# EAGLE library part CD4017 (library SparkFun-IC-Logic)
10-Out Decade Counter Datasheet <https://cdn.sparkfun.com/datasheets/Kits/cd4022b.pdf> SparkFun Products SparkFun SparkPunk Sequencer Kit <https://www.sparkfun.com/products/12707> (KIT-12707)
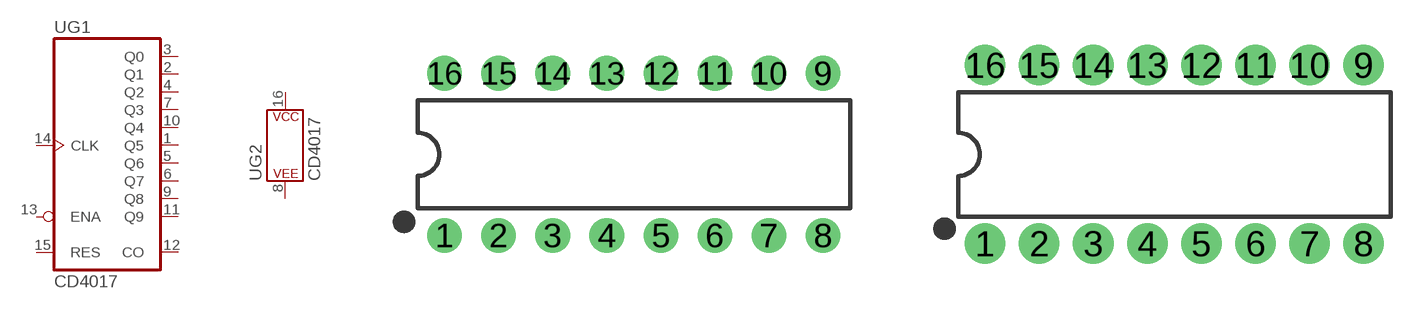
[diagram p5: symbol with the pads of DIP16; footprints DIP16, DIP16-KIT]

Designator prefix U; gates G1=CD4017 G2=POWER_CONSORT

## CD4017 (PROD_ID: IC-11929; VALUE: CD4017)  [DIP16]
1  G1:Q5  out
2  G1:Q1  out
3  G1:Q0  out
4  G1:Q2  out
5  G1:Q6  out
6  G1:Q7  out
7  G1:Q3  out
8  G2:P$V-
9  G1:Q8  out
10  G1:Q4  out
11  G1:Q9  out
12  G1:CO  out
13  G1:ENA  in
14  G1:CLK  in
15  G1:RES  in
16  G2:P$V+

## CD4017KIT (PROD_ID: IC-11929)  [DIP16-KIT]
Pads as for DIP16

## Footprint DIP16 (pad centres in mm)
Dual In Line Package
drill 0.813 pad 1.626: 1 -8.89,-3.81; 2 -6.35,-3.81; 3 -3.81,-3.81; 4 -1.27,-3.81; 5 1.27,-3.81; 6 3.81,-3.81; 7 6.35,-3.81; 8 8.89,-3.81; 9 8.89,3.81; 10 6.35,3.81; 11 3.81,3.81; 12 1.27,3.81; 13 -1.27,3.81; 14 -3.81,3.81; 15 -6.35,3.81; 16 -8.89,3.81

## Footprint DIP16-KIT (pad centres in mm)
drill 0.864 pad 1.905: 1 -8.89,-4.191; 2 -6.35,-4.191; 3 -3.81,-4.191; 4 -1.27,-4.191; 5 1.27,-4.191; 6 3.81,-4.191; 7 6.35,-4.191; 8 8.89,-4.191; 9 8.89,4.191; 10 6.35,4.191; 11 3.81,4.191; 12 1.27,4.191; 13 -1.27,4.191; 14 -3.81,4.191; 15 -6.35,4.191; 16 -8.89,4.191